# Altium footprint library PcbLib1.PcbLib: 10 footprints
Each footprint in its own frame and in the unit in brackets; x right, y up, seen from the top. Pads: shape width x height; smd on the part's side, far side on the other; paste and mask are expansions set on the pad; w line width, h text height; cw(c..) or ccw(c..) is an arc to the next point about the centre after c.
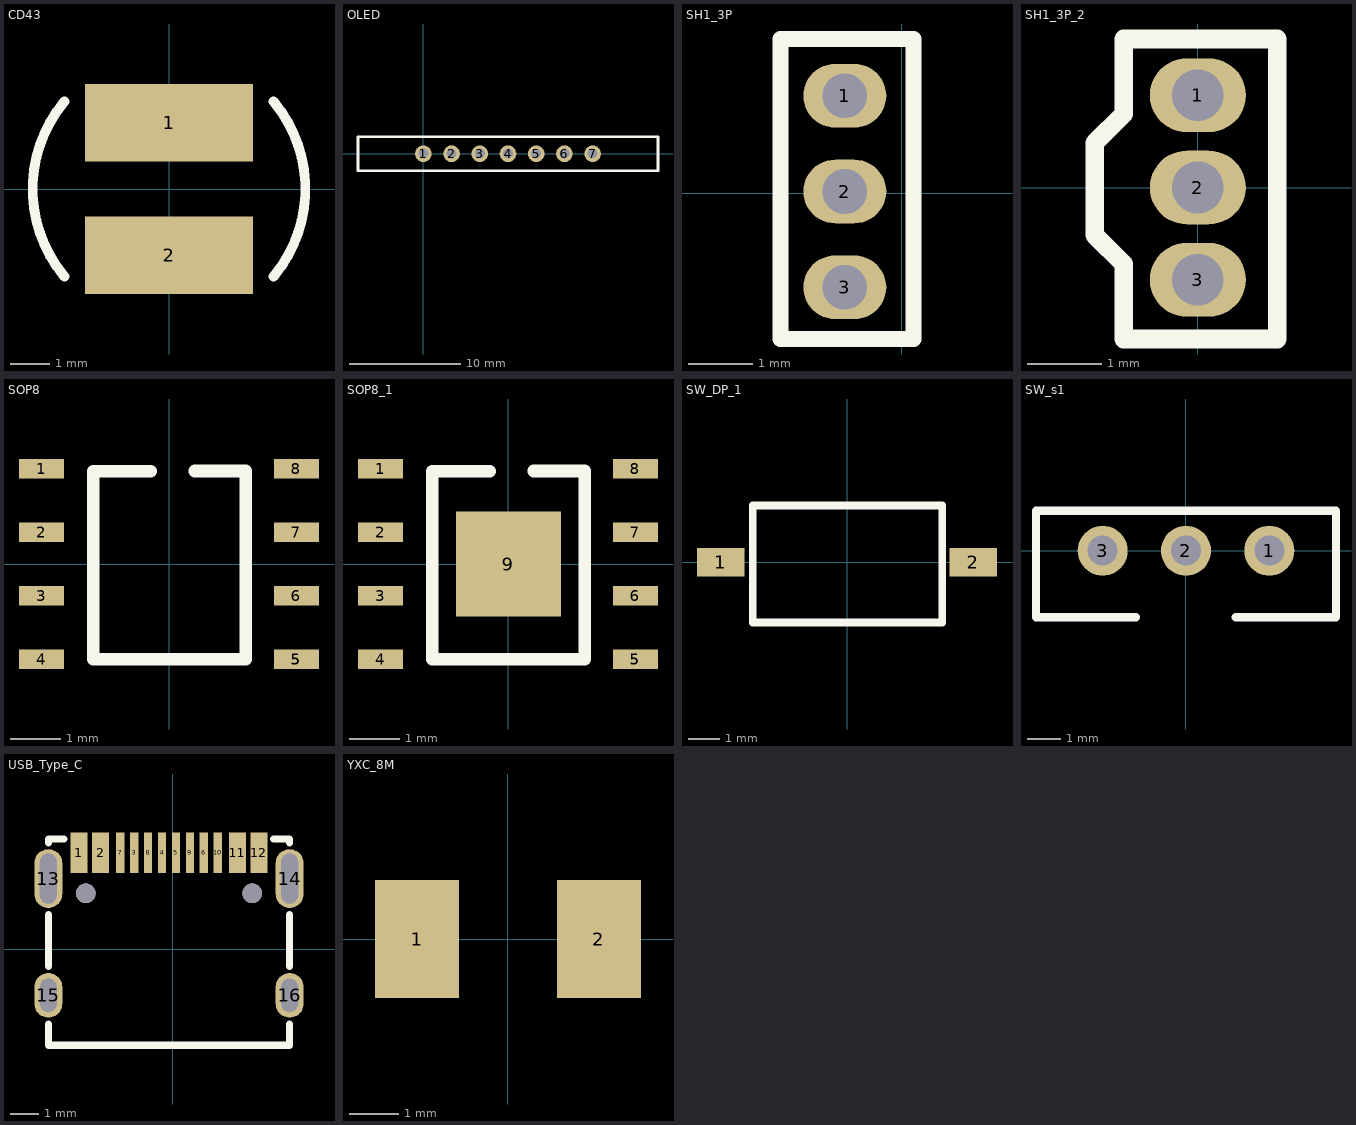
[diagram p0: the footprints below, top view; thin cyan lines are the x and y axes]

## CD43 [mm]
pads (2):
  rect 4.3x2 smd: 1(0,1.7) 2(0,-1.7)
Top Overlay:
  lines w0.254: -2.681,-2.25 cw(c0,0) -2.681,2.25 ; 2.681,-2.25 ccw(c0,0) 2.681,2.25
3D body "CD43.STEP": height 3.2, standoff 0, extent -2,-2.201 2,2.202

## OLED [mm]
pads (7):
  round 1.5 hole 0.9: 1(0,0) 2(2.54,0) 3(5.08,0) 4(7.62,0) 5(10.16,0) 6(12.7,0) 7(15.24,0)
Top Overlay:
  lines w0.25: -5.88,-1.524 -5.88,1.524 21.12,1.524 21.12,-1.524 -5.88,-1.524

## SH1_3P [mm]
pads (3):
  oval 1.3x1 hole 0.7: 1(-0.889,1.524) 2(-0.889,0.024) 3(-0.889,-1.476)
Top Overlay:
  lines w0.254: -1.895,-2.286 -1.895,2.413 0.186,2.413 0.186,-2.286 -1.895,-2.286
3D body "HS1mm.STEP": height 3.5, standoff -1.88, extent -5.822,-3.85 1.2,3.85

## SH1_3P_2 [mm]
pads (3):
  oval 1.3x1 hole 0.7: 1(0,1.25) 2(0,0) 3(0,-1.25)
Top Overlay:
  lines w0.254: -1.397,-0.645 -1.397,0.605 -1.006,0.996 -1.006,2.012 1.075,2.012 1.075,-2.052 -1.006,-2.052 -1.006,-1.036 -1.397,-0.645
3D body "H1.25_3pin.STEP": height 4.7, standoff -2, extent -1.5,-2.6 1.7,2.6

## SOP8 [mm]
pads (9):
  rect 0.9x0.4 smd: 1(-2.56,1.905) 2(-2.56,0.635) 3(-2.56,-0.635) 4(-2.56,-1.905) 5(2.54,-1.905) 5(2.54,-1.905) 6(2.54,-0.635) 7(2.54,0.635) 8(2.54,1.905)
Top Overlay:
  lines w0.254: -0.381,1.855 -1.524,1.855 -1.524,-1.905 1.524,-1.905 1.524,1.859 0.508,1.859
3D body "AS.STEP": height 1.75, standoff 0, extent -2.75,-2.45 2.75,2.45

## SOP8_1 [mm]
pads (10):
  rect 0.9x0.4 smd: 1(-2.56,1.905) 2(-2.56,0.635) 3(-2.56,-0.635) 4(-2.56,-1.905) 5(2.54,-1.905) 5(2.54,-1.905) 6(2.54,-0.635) 7(2.54,0.635) 8(2.54,1.905)
  rect 2.09x2.09 smd: 9(0,0)
Top Overlay:
  lines w0.254: -0.381,1.855 -1.524,1.855 -1.524,-1.905 1.524,-1.905 1.524,1.859 0.508,1.859
3D body "AS.STEP": height 1.75, standoff 0, extent -2.75,-2.45 2.75,2.45

## SW_DP_1 [mm]
pads (2):
  rect 1.5x0.9 smd: 1(-4,0) 2(4,0)
Top Overlay:
  lines w0.25: -2.984,-1.905 -2.984,1.795 ; -2.984,-1.905 3.016,-1.905 ; -2.984,-1.905 -2.984,1.795 ; -2.984,-1.905 3.016,-1.905 ; -2.984,1.795 3.016,1.795 3.016,-1.905
3D body "SW_DP_1.STEP": height 2.5, standoff 0, extent -4,-1.85 4,1.85

## SW_s1 [mm]
pads (3):
  round 1.5 hole 0.9: 1(2.5,0) 2(0,0) 3(-2.5,0)
Top Overlay:
  lines w0.25: -1.5,-2 -4.5,-2 -4.5,1.2 4.5,1.2 4.5,-2 ; 1.488,-2 4.488,-2
3D body "SW_S1.STEP": height 4.55, standoff -3.75, extent -4.5,-5.5 4.5,1.2

## USB_Type_C [mm]
pads (18):
  rect 0.6x1.45 smd: 1(-3.354,3.455) 2(-2.579,3.455) 11(2.321,3.455) 12(3.091,3.455)
  rect 0.3x1.45 smd: 3(-1.379,3.454) 4(-0.379,3.455) 5(0.121,3.455) 6(1.121,3.455) 7(-1.879,3.455) 8(-0.879,3.455) 9(0.621,3.455) 10(1.621,3.455)
  oval 1x2.1 hole 0.6 slot 1.8 at 90 deg: 13(-4.449,2.54) 14(4.191,2.54)
  oval 1x1.6 hole 0.6 slot 1.2 at 90 deg: 15(-4.449,-1.64) 16(4.191,-1.64)
  round 0.7 hole 0.7 unplated: ""(-3.109,2.01) ""(2.851,2.01)
Top Overlay:
  lines w0.254: -4.447,-2.671 -4.447,-3.429 4.189,-3.429 4.189,-2.671 ; -4.447,-0.609 -4.447,1.259 ; -4.447,3.821 -4.447,3.955 -3.885,3.955 ; 3.622,3.955 4.189,3.955 4.189,3.821 ; 4.189,-0.609 4.189,1.259
Mechanical 4:
  circle w0.35: c-3.109,2.01 r0.175
  circle w0.35: c2.851,2.01 r0.175
3D body "USB.STEP": height 2.78, standoff -1.68, extent -4.25,-4.3 4.25,3
3D body: height 7.3, standoff 0, extent -0.127,-0.889 -0.127,-0.889
3D body: height 22.6, standoff 6.06, extent 4.826,-5.461 4.826,-4.572

## YXC_8M [mm]
pads (2):
  rect 1.7x2.4 smd: 1(-1.85,0) 2(1.85,0)
3D body "YXC_8M.STEP": height 1.2, standoff 0, extent -2.5,-1.6 2.5,1.6